# Altium schematic symbol library BateryHolder.SchLib: 3 symbols
Pins are listed as number, name and electrical type; pins without a type are passive.

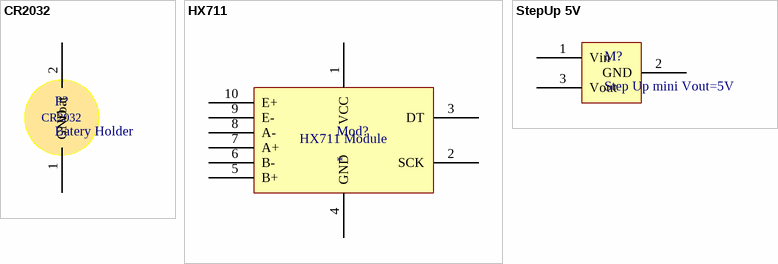
[diagram p0: symbols CR2032 to StepUp 5V]

## CR2032
designator P?, comment Batery Holder
footprint 20mm Cell Holder (CR2032 Batery Holder - 23-BHCC-1)
pins: 1 GND, 2 Vbat

## HX711
designator Mod?
Module for HX711
footprint HX711 (LoadCell Module)
pins: 1 VCC, 2 SCK, 3 DT, 4 GND, 5 B+, 6 B-, 7 A+, 8 A-, 9 E-, 10 E+
text: HX711 Module

## StepUp 5V
designator M?, comment Step Up mini Vout=5V
footprint StepUp Mini 5V (StepUp mini 5V)
pins: 1 Vin, 2 GND, 3 Vout